# EAGLE library part INVENSENSE-MPU9250 (library gclueSensor)
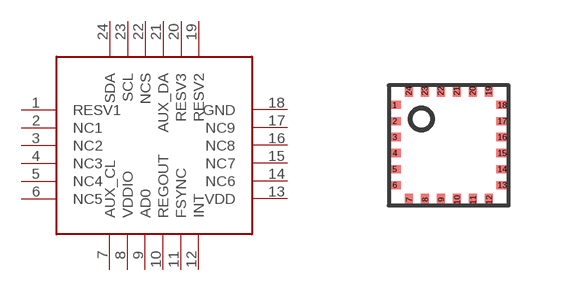
[diagram p5: symbol with the pads of INVENSENSE-MPU9250; footprint INVENSENSE-MPU9250]

Designator prefix -

## INVENSENSE-MPU9250  [INVENSENSE-MPU9250]
1  RESV1
2  NC1
3  NC2
4  NC3
5  NC4
6  NC5
7  AUX_CL
8  VDDIO
9  AD0
10  REGOUT
11  FSYNC
12  INT
13  VDD
14  NC6
15  NC7
16  NC8
17  NC9
18  GND
19  RESV2
20  RESV3
21  AUX_DA
22  NCS
23  SCL
24  SDA

## Footprint INVENSENSE-MPU9250 (pad centres in mm)
smd 0.3 x 0.2: 1 -1.35,1.01; 2 -1.35,0.61; 3 -1.35,0.21; 4 -1.35,-0.19; 5 -1.35,-0.59; 6 -1.35,-0.99; 13 1.34,-0.99; 14 1.34,-0.59; 15 1.34,-0.19; 16 1.34,0.21; 17 1.34,0.61; 18 1.34,1.01
smd 0.2 x 0.3: 7 -0.99,-1.36; 8 -0.59,-1.36; 9 -0.19,-1.36; 10 0.21,-1.36; 11 0.61,-1.36; 12 1.01,-1.36; 19 1,1.36; 20 0.6,1.36; 21 0.2,1.36; 22 -0.2,1.36; 23 -0.6,1.36; 24 -1,1.36